# Altium footprint library NR电源板.pcblib: 25 footprints (part 1 of 2)
Each footprint in its own frame and in the unit in brackets; x right, y up, seen from the top. Pads: shape width x height; smd on the part's side, far side on the other; paste and mask are expansions set on the pad; w line width, h text height; cw(c..) or ccw(c..) is an arc to the next point about the centre after c.
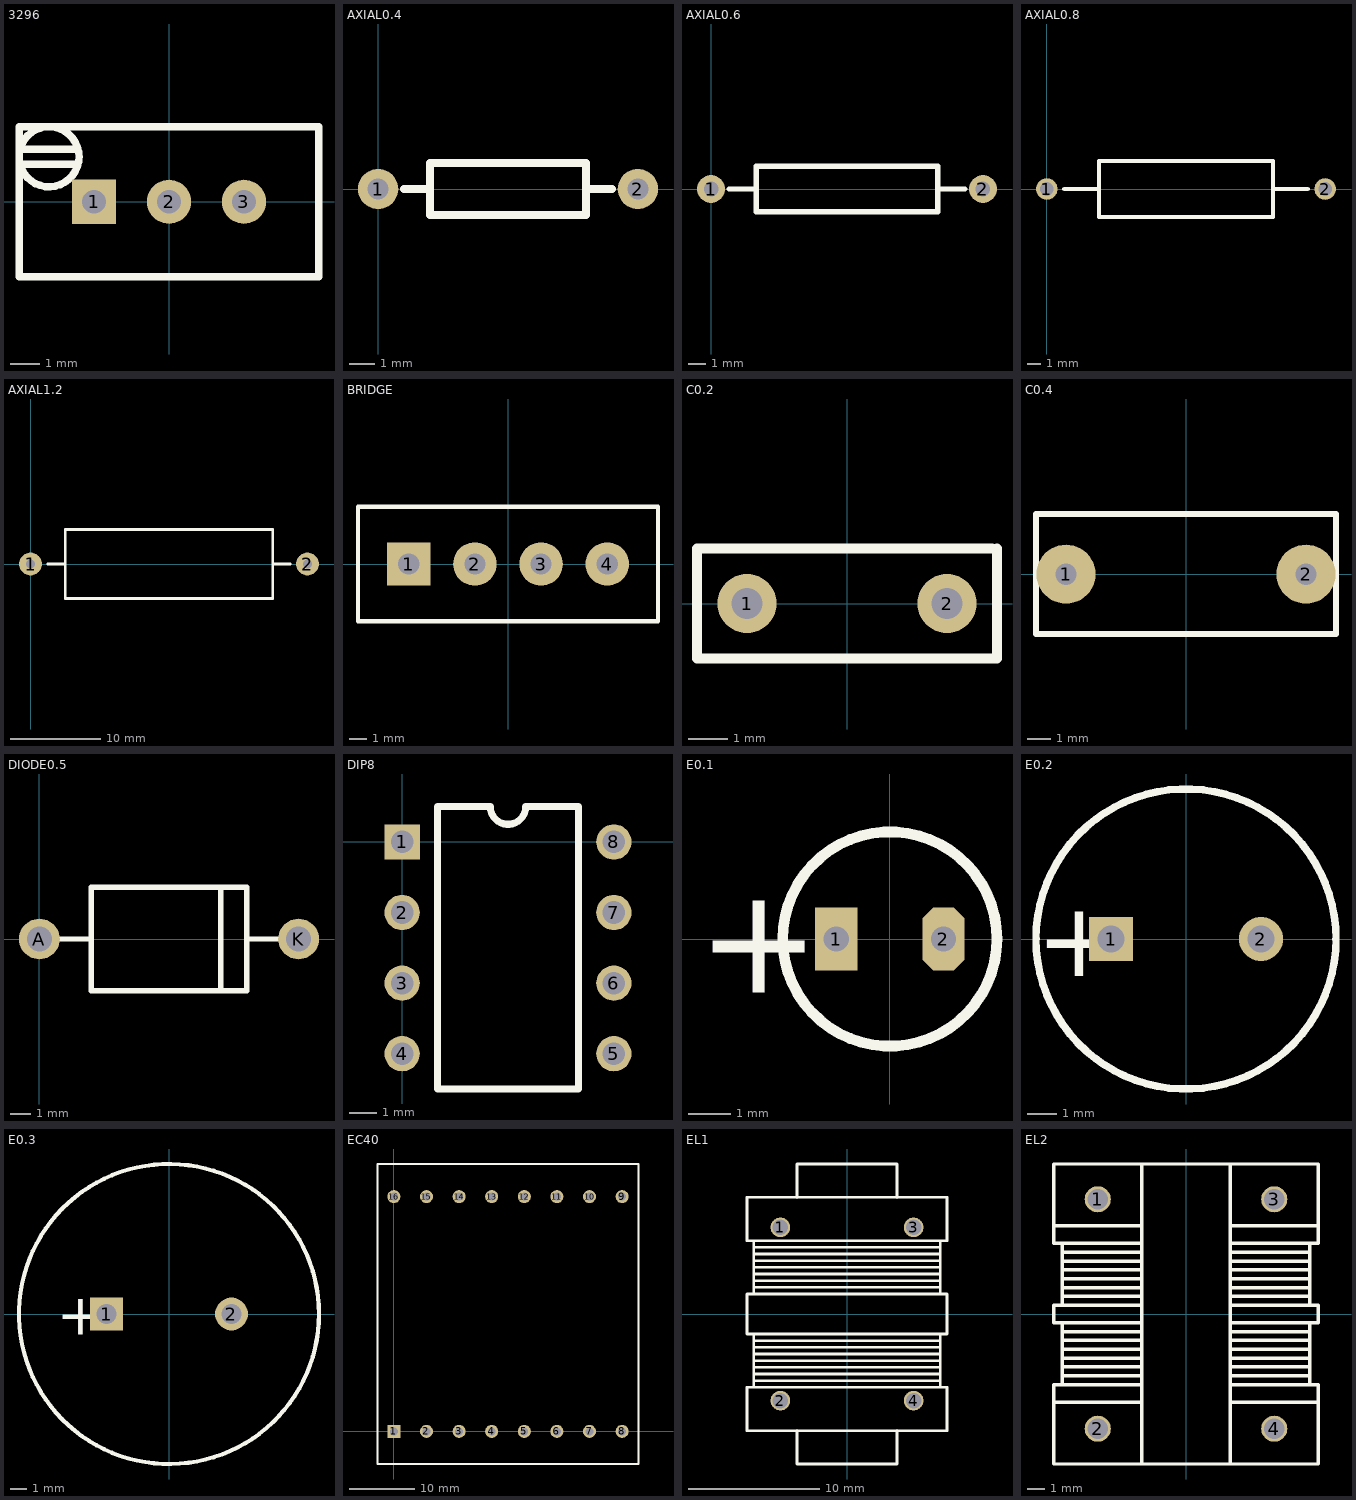
[diagram p0: the footprints below, top view; thin cyan lines are the x and y axes]

## 3296 [mm]
pads (3):
  rect 1.5x1.5 hole 0.8: 1(-2.54,0)
  round 1.5 hole 0.8: 2(0,0) 3(2.54,0)
TopOverlay:
  circle w0.254: c-4.064,1.524 r1.016
  lines w0.254: -4.953,1.27 -3.175,1.27 ; -4.953,1.778 -3.175,1.778 ; -5.08,-2.54 5.08,-2.54 5.08,2.54 -5.08,2.54 -5.08,-2.54

## AXIAL0.4 [mil]
pads (2):
  round 62 hole 32: 1(0,0) 2(400,0)
TopOverlay:
  lines w12: 40,0 80,0 ; 320,0 360,0 ; 80,-40 320,-40 320,40 80,40 80,-40

## AXIAL0.6 [mil]
pads (2):
  round 62 hole 32: 1(0,0) 2(600,0)
TopOverlay:
  lines w12: 40,0 100,0 ; 500,0 560,0 ; 100,-50 500,-50 500,50 100,50 100,-50

## AXIAL0.8 [mil]
pads (2):
  round 62 hole 40: 1(0,0) 2(800,0)
TopOverlay:
  lines w12: 50,0 150,0 ; 650,0 750,0 ; 150,-80 150,80 650,80 650,-80 150,-80

## AXIAL1.2 [mil]
pads (2):
  round 100 hole 40: 1(0,0) 2(1200,0)
TopOverlay:
  lines w12: 75,0 150,0 ; 1050,0 1125,0 ; 150,-150 1050,-150 1050,150 150,150 150,-150

## BRIDGE [mm]
pads (4):
  rect 2.5x2.5 hole 1.219: 1(-5.715,0)
  round 2.5 hole 1.219: 2(-1.905,0) 3(1.905,0) 4(5.715,0)
TopOverlay:
  lines w0.254: -8.636,-3.302 8.636,-3.302 8.636,3.302 -8.636,3.302 -8.636,-3.302

## C0.2 [mm]
pads (2):
  round 1.5 hole 0.8: 1(-2.54,0) 2(2.54,0)
TopOverlay:
  lines w0.254: 3.683,1.397 -3.81,1.397 -3.81,-1.397 3.81,-1.397 3.81,1.397

## C0.4 [mm]
pads (2):
  round 2.5 hole 0.9: 1(-5.08,0) 2(5.08,0)
TopOverlay:
  lines w0.254: -6.35,-2.54 6.35,-2.54 6.35,2.54 -6.35,2.54 -6.35,-2.54

## DIODE0.5 [mm]
pads (2):
  round 2 hole 1.219: A(0,0) K(12.7,0)
TopOverlay:
  lines w0.254: 0,0 2.54,0 ; 8.89,-2.54 8.89,2.54 ; 10.16,0 12.7,0 ; 2.54,-2.54 2.54,2.54 10.16,2.54 10.16,-2.54 2.54,-2.54

## DIP8 [mil]
pads (8):
  rect 50x50 hole 32: 1(0,0)
  round 50 hole 32: 2(0,-100) 3(0,-200) 4(0,-300) 5(300,-300) 6(300,-200) 7(300,-100) 8(300,0)
TopOverlay:
  lines w10: 50,-350 50,50 125,50 ccw(c150,50) 175,50 250,50 250,-350 50,-350

## E0.1 [mm]
pads (2):
  rect 1x1.5 hole 0.6: 1(-1.27,0)
  oct 1x1.5 hole 0.6: 2(1.27,0)
TopOverlay:
  circle w0.254: c0,0 r2.54
  text "+" at -4.572,-1.27 h2.54

## E0.2 [mm]
pads (2):
  rect 1.5x1.5 hole 0.914: 1(-2.54,0)
  round 1.5 hole 0.914: 2(2.54,0)
TopOverlay:
  circle w0.254: c0,0 r5.08
  text "+" at -5.08,-1.27 h2.54

## E0.3 [mm]
pads (2):
  rect 2x2 hole 1.219: 1(-3.81,0)
  round 2 hole 1.219: 2(3.81,0)
TopOverlay:
  circle w0.254: c0,0 r9.144
  text "+" at -6.858,-1.27 h2.54

## EC40 [mm]
pads (16):
  rect 2x2 hole 1.2: 1(0,0)
  round 2 hole 1.2: 2(5,0) 3(10,0) 4(15,0) 5(20,0) 6(25,0) 7(30,0) 8(35,0) 9(35,36) 10(30,36) 11(25,36) 12(20,36) 13(15,36) 14(10,36) 15(5,36) 16(0,36)
TopOverlay:
  lines w0.254: -2.5,-5 37.5,-5 37.5,41 -2.5,41 -2.5,-5

## EL1 [mm]
pads (4):
  round 1.5 hole 1.2: 1(-5.08,6.604) 2(-5.08,-6.604) 3(5.08,6.604) 4(5.08,-6.604)
TopOverlay:
  lines w0.2: -7.112,-5.588 -7.112,-1.524 ; -7.112,-5.08 7.112,-5.08 ; -7.112,-4.572 7.112,-4.572 ; -7.112,-4.064 7.112,-4.064 ; -7.112,-3.556 7.112,-3.556 ; -7.112,-3.048 7.112,-3.048 ; -7.112,-2.54 7.112,-2.54 ; -7.112,-2.032 7.112,-2.032 ; -7.112,1.524 -7.112,5.588 ; -7.112,2.032 7.112,2.032 ; -7.112,2.54 7.112,2.54 ; -7.112,3.048 7.112,3.048 ; -7.112,3.556 7.112,3.556 ; -7.112,4.064 7.112,4.064 ; -7.112,4.572 7.112,4.572 ; -7.112,5.08 7.112,5.08 ; -3.81,-11.43 3.81,-11.43 ; -3.81,11.43 3.81,11.43 ; 7.112,-5.588 7.112,-1.524 ; 7.112,1.524 7.112,5.588 ; -7.62,-8.89 -7.62,-5.588 7.62,-5.588 7.62,-8.89 -7.62,-8.89 ; -7.62,-1.524 -7.62,1.524 7.62,1.524 7.62,-1.524 -7.62,-1.524 ; -7.62,5.588 -7.62,8.89 7.62,8.89 7.62,5.588 -7.62,5.588
  lines w0.254: -3.81,-11.43 -3.81,-8.89 ; -3.81,8.89 -3.81,11.43 ; 3.81,-11.43 3.81,-8.89 ; 3.81,8.89 3.81,11.43

## EL2 [mm]
pads (4):
  round 1.5 hole 1.2: 1(-5.08,6.604) 2(-5.08,-6.604) 3(5.08,6.604) 4(5.08,-6.604)
TopOverlay:
  lines w0.2: -7.62,-5.08 -2.54,-5.08 ; -7.112,-4.064 -7.112,-0.508 ; -7.112,-3.556 -2.54,-3.556 ; -7.112,-3.048 -2.54,-3.048 ; -7.112,-2.54 -2.54,-2.54 ; -7.112,-2.032 -2.54,-2.032 ; -7.112,-1.524 -2.54,-1.524 ; -7.112,-1.016 -2.54,-1.016 ; -7.112,0.508 -7.112,4.064 ; -7.112,1.016 -2.54,1.016 ; -7.112,1.524 -2.54,1.524 ; -7.112,2.032 -2.54,2.032 ; -7.112,2.54 -2.54,2.54 ; -7.112,3.048 -2.54,3.048 ; -7.112,3.556 -2.54,3.556 ; -2.54,-8.636 -2.54,8.636 ; -2.54,-4.064 -7.62,-4.064 -7.62,-8.636 7.62,-8.636 7.62,-4.064 2.54,-4.064 ; -2.54,-0.508 -7.62,-0.508 -7.62,0.508 -2.54,0.508 ; -2.54,4.064 -7.62,4.064 -7.62,5.08 ; -2.54,5.08 -7.62,5.08 ; 2.54,-8.636 2.54,8.636 ; 2.54,-5.08 7.62,-5.08 ; 2.54,-3.556 7.112,-3.556 ; 2.54,-3.048 7.112,-3.048 ; 2.54,-2.54 7.112,-2.54 ; 2.54,-2.032 7.112,-2.032 ; 2.54,-1.524 7.112,-1.524 ; 2.54,-1.016 7.112,-1.016 ; 2.54,-0.508 7.62,-0.508 7.62,0.508 2.54,0.508 ; 2.54,1.016 7.112,1.016 ; 2.54,1.524 7.112,1.524 ; 2.54,2.032 7.112,2.032 ; 2.54,2.54 7.112,2.54 ; 2.54,3.048 7.112,3.048 ; 2.54,3.556 7.112,3.556 ; 2.54,4.064 7.62,4.064 7.62,8.636 -7.62,8.636 -7.62,5.08 ; 2.54,5.08 7.62,5.08 ; 7.112,-4.064 7.112,-0.508 ; 7.112,0.508 7.112,4.064